# Altium schematic symbol library PBL - Diodes.SCHLIB: 15 symbols
Pins are listed as number, name and electrical type; pins without a type are passive.

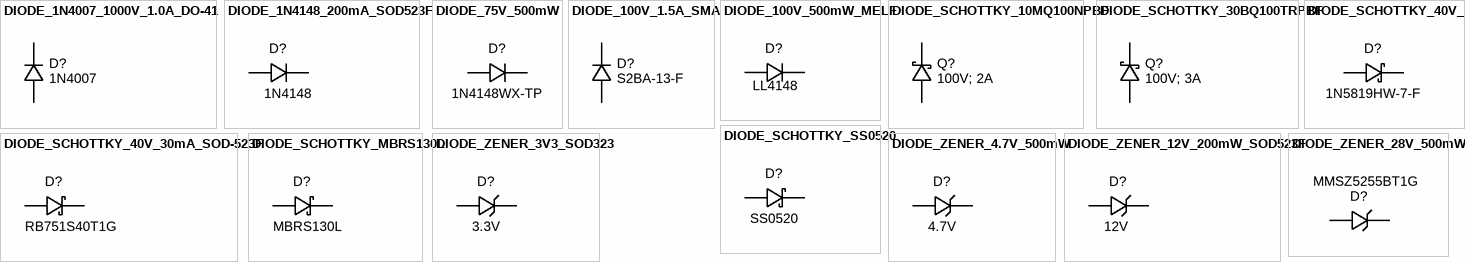
[diagram p0: symbols DIODE_1N4007_1000V_1.0A_DO-41 to DIODE_ZENER_28V_500mW]

## DIODE_1N4007_1000V_1.0A_DO-41
designator D?, comment 1N4007
Diode 1N4007 1A 1000V THD; Manufacturer 1: Diodes Inc; Manufacturer Part Number 1: 1N4007-T; Ratings: 100V; 1.5A; Diode Type: Standard; Value: Vf = 1.15V @ 1.5A (Max); SCDType: spec; Package / Case: DO-41; Mounting Type: Through Hole
footprint DO-41 (Diode, thru-hole)
pins: A, K

## DIODE_1N4148_200mA_SOD523F
designator D?, comment 1N4148
Diode SMD small signal 0.2A SOD-523F; Manufacturer 1: Fairchild Semiconductor; Manufacturer Part Number 1: 1N4148WT; Ratings: Vr=75V; Vf=1V@10mA; Io=200mA; Material: Si; SCDType: source; Package / Case: SC-79, SOD-523F; Supplier 1: Digi-Key; Supplier Part Number 1: 1N4148WTCT-ND; ComponentLink1URL: http://www.fairchildsemi.com/ds/1N/1N914BWT.pdf; ComponentLink1Description: http://www.fairchildsemi.com/ds/1N/1N914BWT.pdf; Value: 1N4148
footprint SOD523F (SOD-523F; 2 Leads; Body 1.3 x 0.9 mm, (LxW))
pins: A, K

## DIODE_75V_500mW
designator D?  Manufacturer Part Number: 1N4148WX-TP  (hidden comment: *)
Diode SMD 300mA 0.5W SOD323; Manufacturer: Micro Commercial Co; Ratings: 75V; 300mA; 0.5W; Material: Si; Diode Type: Standard; Value: Vf=1V @ 50mA; SCDType: source; Package / Case: SOD323; Supplier 1: Digi-Key; Supplier Part Number 1: 1N4148WXTPMSCT-ND
footprint SOD323 (SOD-323; 2 Leads; Body 1.8 x 1.35 mm, (LxW))
pins: A, K

## DIODE_100V_1.5A_SMA
designator D?, comment Manufacturer Part Number 1: S2BA-13-F  (hidden comment: 100V; 1.5A)
Diode SMD 100V 1.5A SMA; Manufacturer 1: Diodes Inc; Material: Si; Diode Type: Standard; Value: Vf = 1.15V @ 1.5A (Max); SCDType: source; Package / Case: DO-214AC, SMA; Ratings: 100V; 1.5A; Supplier 1: Digi-Key; Supplier Part Number 1: S2BA-FDICT-ND
footprint DO-214AC (JEDEC DO214 variation AC. SMA)
pins: A, K

## DIODE_100V_500mW_MELF
designator D?, comment Manufacturer Part Number 1: LL4148  (hidden comment: Mini MELF)
Diode SMD 100V 150mA 500mW SOD80; Manufacturer 1: Fairchild Semiconductor; Ratings: 100V; 150mA min; 500mW; Material: Si; Diode Type: Standard; Value: Vf=1V @ 10mA; SCDType: source; Package / Case: SOD80, LL-34; Manufacturer 2: DC Components; Manufacturer Part Number 2: DL4148; Supplier 1: Digi-Key; Supplier Part Number 1: LL4148FSCT-ND
footprint SOD80, LL-34 (Diode, MiniMELF)
pins: A, K

## DIODE_SCHOTTKY_10MQ100NPBF
designator Q?  Ratings: 100V; 2A  (hidden comment: *)
Diode Schottky SMD 100V 2A SMA; Manufacturer 1: Micro Commercial Co; Manufacturer Part Number 1: SS210-TP; Material: Si; Speed: Fast Recovery =< 500ns, > 200mA (Io); SCDType: source; Package / Case: DO-214AC, SMA; Diode Type: Schottky; Mounting Type: Surface Mount; Supplier 1: Digi-Key; Supplier Part Number 1: SS210-TPMSCT-ND
footprint DO-214AC (JEDEC DO214 variation AC. SMA)
pins: A, K

## DIODE_SCHOTTKY_30BQ100TRPBF
designator Q?  Ratings: 100V; 3A  (hidden comment: *)
Diode Schottky SMD 100V 3A SMC; Manufacturer 1: Vishay/Semiconductors; Manufacturer Part Number 1: 30BQ100TRPBF; Material: Si; Speed: Fast Recovery =< 500ns, > 200mA (Io); SCDType: source; Package / Case: DO-214AB, SMC; Diode Type: Schottky; Mounting Type: Surface Mount; Supplier 1: Digi-Key; Supplier Part Number 1: 30BQ100PBFCT-ND
footprint DO-214AB (JEDEC DO214 variation AB. SMC)
pins: A, K

## DIODE_SCHOTTKY_40V_1A
designator D?  Manufacturer Part Number 1: 1N5819HW-7-F  (hidden comment: *)
Diode Schottky SMD 40V 1A SOD123; Manufacturer 1: Diodes Inc; Ratings: 40V; 1A; Material: Si; SCDType: spec; Package / Case: SOD123; Diode Type: Schottky; Mounting Type: Surface Mount; Supplier 1: Digi-Key; Supplier Part Number 1: 1N5819HW-FDICT-ND
footprint SOD123 (SOD-123; 2 Leads; Body 2.7 x 1.6 mm, (LxW))
pins: A, K

## DIODE_SCHOTTKY_40V_30mA_SOD-523F
designator D?, comment Manufacturer Part Number 1: RB751S40T1G  (hidden comment: Low Ir)
Diode Schottky SMD 40V 30mA SOD-523F; Manufacturer 1: ON Semiconductor; Ratings: 40Vmax; 30mA; Material: Si; Current - Reverse Leakage @ Vr: 500nA @ 30V; Current - Average Rectified (Io): 30mA (DC); Capacitance @ Vr, F: 2.5pF @ 1V, 1MHz; Voltage - Forward (Vf) (Max) @ If: 370mV @ 1mA; SCDType: source; Package / Case: SC-79, SOD-523F; Diode Type: Schottky; Mounting Type: Surface Mount; Supplier 1: Digi-Key; Supplier Part Number 1: RB751S40T1GOSCT-ND; ComponentLink1URL: http://www.onsemi.com/pub_link/Collateral/RB751S40T1-D.PDF; ComponentLink1Description: http://www.onsemi.com/pub_link/Collateral/RB751S40T1-D.PDF
footprint SOD523F (SOD-523F; 2 Leads; Body 1.3 x 0.9 mm, (LxW))
pins: A, K

## DIODE_SCHOTTKY_MBRS130L
designator D?, comment MBRS130L
Diode Schottky SMD 30V 2A DO-214AA; Manufacturer 1: Fairchild Semiconductor; Material: Si; Ratings: 30Vr; 2A; SCDType: source; Package / Case: DO-214AA, SMB; Supplier 1: Digi-Key; Supplier Part Number 1: MBRS130LFSCT-ND; Manufacturer Part Number 1: MBRS130L
footprint DO-214AA (JEDEC DO214 variation AA. SMB)
pins: A, K

## DIODE_SCHOTTKY_SS0520
designator D?, comment SS0520
Diode Schottky SMD 20V 0.5A SOD123; Manufacturer 1: Fairchild Semiconductor; Manufacturer Part Number 1: MBR0520L; Material: Si; Ratings: 20V; 0.5A; SCDType: source; Manufacturer 4: DC Components Co; Package / Case: SOD-123; Supplier 1: Digi-Key; Supplier Part Number 1: MBR0520LCT-ND; Supplier 2: Digi-Key; Supplier Part Number 2: MBR0520LT1GOSCT-ND; Manufacturer 2: ON Semiconductor; Manufacturer Part Number 2: MBR0520LT1G; ComponentLink1URL: http://www.fairchildsemi.com/ds/MB/MBR0520L.pdf; ComponentLink1Description: http://www.fairchildsemi.com/ds/MB/MBR0520L.pdf; ComponentLink2URL: http://www.onsemi.com/pub_link/Collateral/MBR0520LT1-D.PDF; ComponentLink2Description: http://www.onsemi.com/pub_link/Collateral/MBR0520LT1-D.PDF; Supplier 3: Digi-Key; Supplier Part Number 3: B0520LW-FDICT-ND; ComponentLink3URL: http://www.diodes.com/datasheets/ds30051.pdf; ComponentLink3Description: http://www.diodes.com/datasheets/ds30051.pdf; Manufacturer 3: Diodes Inc; Manufacturer Part Number 3: B0520LW-7-F; Manufacturer Part Number 4: SS0520
footprint SOD123 (SOD-123; 2 Leads; Body 2.7 x 1.6 mm, (LxW))
pins: A, K

## DIODE_ZENER_3V3_SOD323
designator D?, comment 3.3V
Diode Zener SMD 3.3V 200mW SOD-323; Manufacturer 1: ON Semiconductor; Manufacturer Part Number 1: MM3Z3V3ST1G; Ratings: 3.3V; 0.2W; Vf=900mV @ 10mA; Material: Si; Tolerance: ±3%; SCDType: source; Package / Case: SOD-323; Diode Type: Zener; Supplier 1: Digi-Key; Supplier Part Number 1: MM3Z3V3ST1GOSCT-ND
footprint SOD323 (SOD-323; 2 Leads; Body 1.8 x 1.35 mm, (LxW))
pins: A, K

## DIODE_ZENER_4.7V_500mW
designator D?, comment 4.7V
Diode Zener SMD 4.7V 0.5W SOD-123; Manufacturer 1: Fairchild Semiconductor; Manufacturer Part Number 1: MMSZ4688; Ratings: 4.7V; 0.5W; Vf=900mV @ 10mA; Material: Si; Tolerance: ±5%; SCDType: source; Package / Case: SOD-123; Diode Type: Zener; Supplier 1: Digi-Key; Supplier Part Number 1: MMSZ4688-ND
footprint SOD123 (SOD-123; 2 Leads; Body 2.7 x 1.6 mm, (LxW))
pins: A, K

## DIODE_ZENER_12V_200mW_SOD523F
designator D?, comment 12V
Diode SMD Zener 12V 0.2W SOD-523F; Manufacturer 1: Fairchild Semiconductor; Manufacturer Part Number 1: MM5Z12V; Ratings: 12V; 0.2W; Material: Si; Tolerance: ±5.39%; Power - Max: 200mW; SCDType: spec; Package / Case: SC-79, SOD-523F; Diode Type: Zener; Supplier 1: Digi-Key; Supplier Part Number 1: MM5Z12VCT-ND; Operating Temperature: -55°C ~ 150°C; Value: 12V
footprint SOD523F (SOD-523F; 2 Leads; Body 1.3 x 0.9 mm, (LxW))
pins: A, K

## DIODE_ZENER_28V_500mW
designator D?  Manufacturer Part Number 1: MMSZ5255BT1G  (hidden comment: *)
Diode Zener SMD 28V 0.5W SOD-123; Manufacturer 1: ON Semiconductor; Ratings: 28V; 0.5W; Material: Si; Tolerance: ±5%; SCDType: source; Package / Case: SOD-123; Diode Type: Zener; Supplier 1: Digi-Key; Supplier Part Number 1: MMSZ5255BT1GOSCT-ND
footprint SOD123 (SOD-123; 2 Leads; Body 2.7 x 1.6 mm, (LxW))
pins: A, K